# Altium footprint library EAGLE_Imported.PCBLIB: 2 footprints
Each footprint in its own frame and in the unit in brackets; x right, y up, seen from the top. Pads: shape width x height; smd on the part's side, far side on the other; paste and mask are expansions set on the pad; w line width, h text height; cw(c..) or ccw(c..) is an arc to the next point about the centre after c.
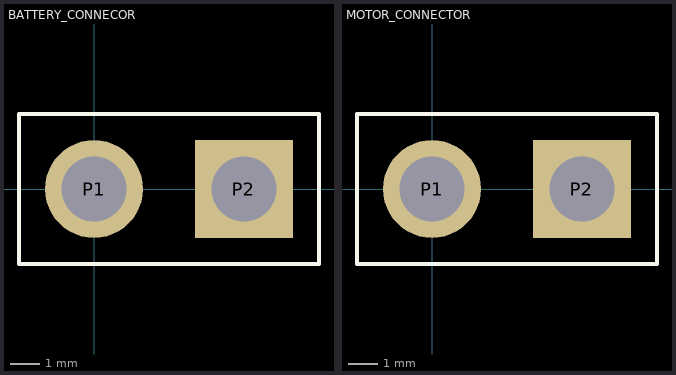
[diagram p0: the footprints below, top view; thin cyan lines are the x and y axes]

## BATTERY_CONNECOR [mil]
pads (2):
  round 130.5 hole 87: P1(0,0)
  rect 130.5x130.5 hole 87: P2(200,0)
Top Overlay:
  lines w5: -100,-100 300,-100 300,100 -100,100 -100,-100

## MOTOR_CONNECTOR [mil]
pads (2):
  round 130.5 hole 87: P1(0,0)
  rect 130.5x130.5 hole 87: P2(200,0)
Top Overlay:
  lines w5: -100,-100 300,-100 300,100 -100,100 -100,-100